# EAGLE library part CJZM718 (library Deegou_Discrete)
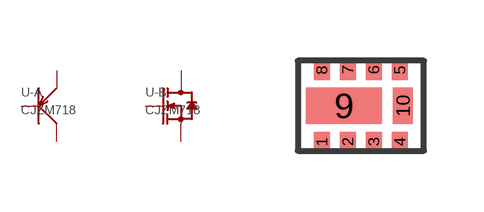
[diagram p8: symbol with the pads of DFNWB3×2-8L-I; footprint DFNWB3×2-8L-I]

Designator prefix U; gates -A=PNP -B=N-MOS

## CJZM718  [DFNWB3×2-8L-I]
1  -A:C  pas
2  -A:E  pas
3  -A:B  pas
4  -B:D  pas
5  -B:G  pas
6  -B:S  pas
7  -A:C  pas
8  -A:C  pas
9  -A:C  pas
10  -B:D  pas

## Footprint DFNWB3×2-8L-I (pad centres in mm)
smd 0.4 x 0.5: 1 -0.975,-0.9; 2 -0.325,-0.9; 3 0.325,-0.9; 4 0.975,-0.9; 5 0.975,0.9; 6 0.325,0.9; 7 -0.325,0.9; 8 -0.975,0.9
smd 1.9 x 0.9: 9 -0.42,0
smd 0.5 x 0.9: 10 1.05,0